# Altium footprint library lorawan_gateway.PcbLib: 36 footprints (part 1 of 3)
Each footprint in its own frame and in the unit in brackets; x right, y up, seen from the top. Pads: shape width x height; smd on the part's side, far side on the other; paste and mask are expansions set on the pad; w line width, h text height; cw(c..) or ccw(c..) is an arc to the next point about the centre after c.
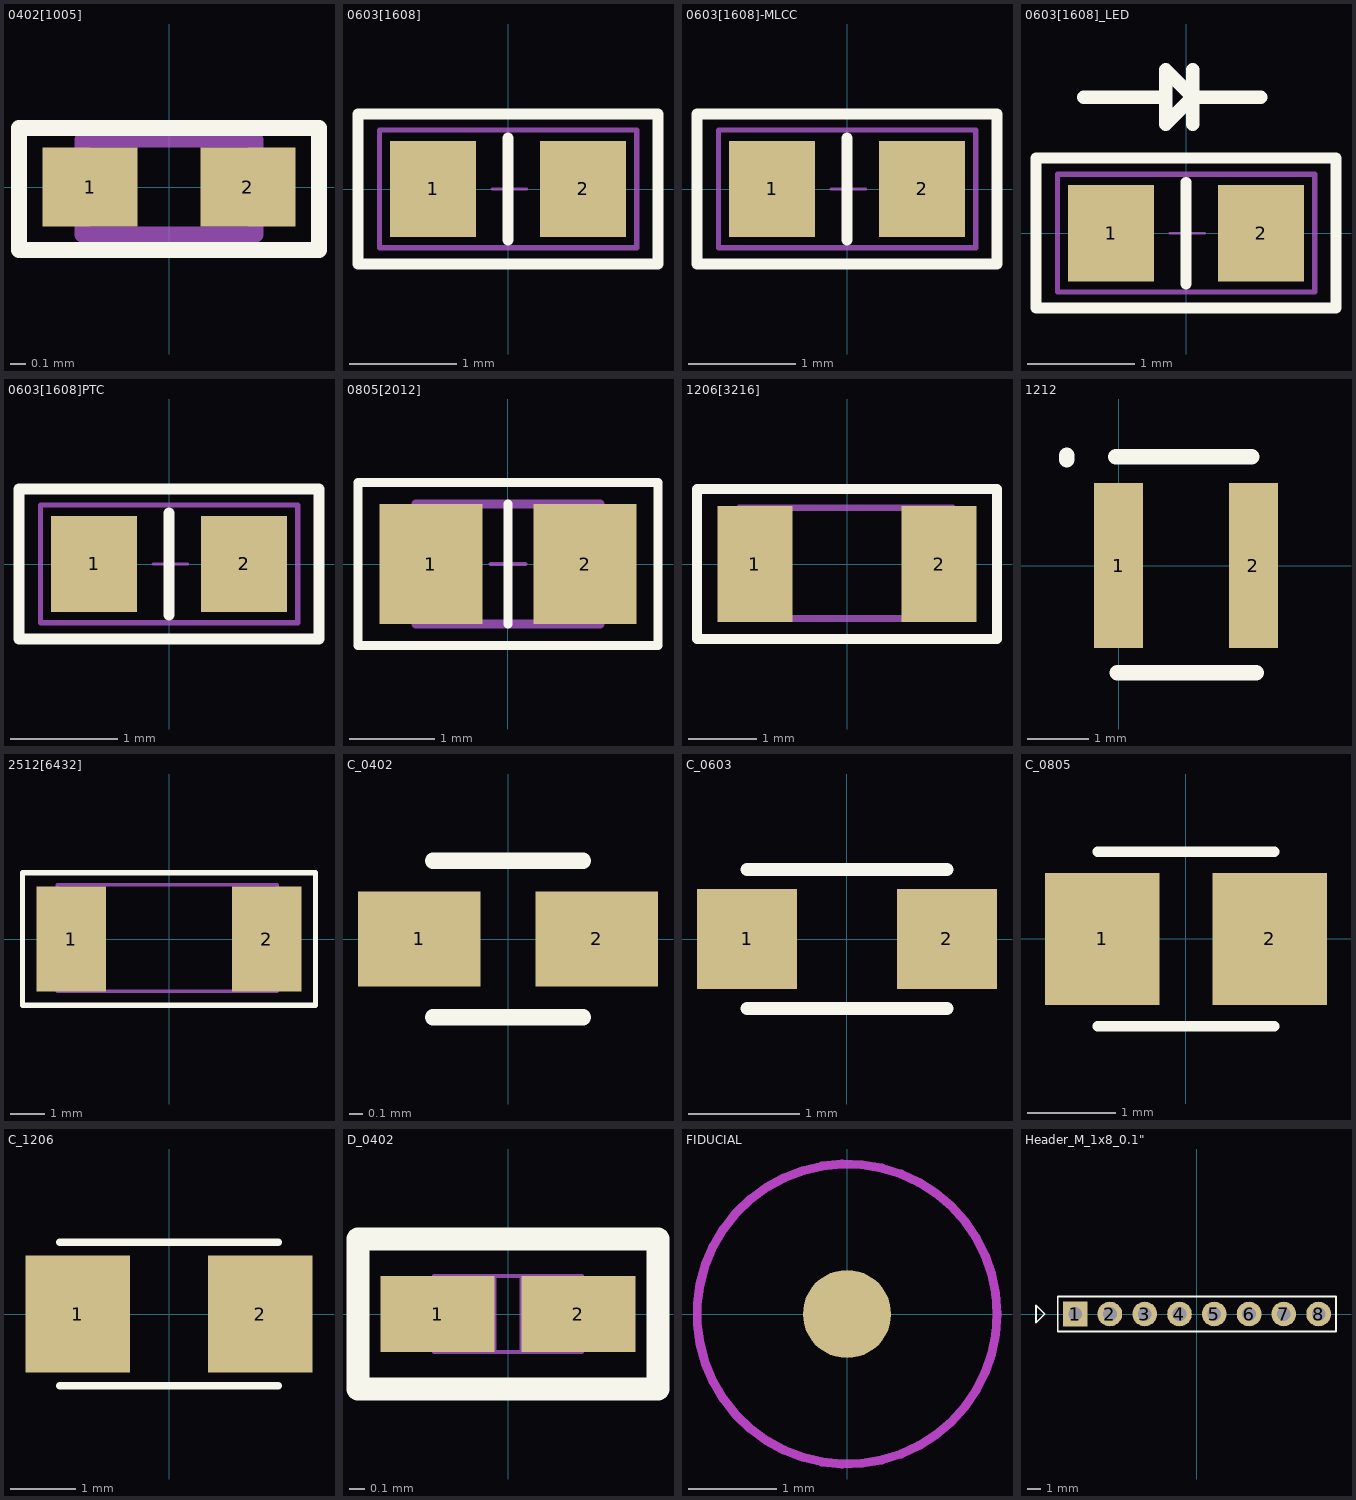
[diagram p0: the footprints below, top view; thin cyan lines are the x and y axes]

## 0402[1005] [mm] "Chip Capacitor, Body 1.0x0.5mm, IPC High Density"
height 1.3
pads (2):
  rect 0.6x0.5 smd: 1(-0.5,0) 2(0.5,0)
Top Overlay:
  lines w0.102: -0.95,-0.4 0.95,-0.4 0.95,0.375 -0.95,0.375 -0.95,-0.4
Mechanical 1:
  lines w0.1: -0.55,-0.3 -0.55,0.3 0.55,0.3 0.55,-0.3 -0.55,-0.3
3D body "RES0402.stp": height 0.3, standoff 0, extent -0.5,-0.25 0.5,0.25

## 0603[1608] [mm] "Chip Capacitor, Body 1.6x0.8mm, IPC High Density"
height 1.3
pads (2):
  rect 0.8x0.9 smd: 1(-0.7,0) 2(0.7,0)
Top Overlay:
  lines w0.102: 0,-0.475 0,0.475 ; -1.4,-0.7 -1.4,0.7 1.4,0.7 1.4,-0.7 -1.4,-0.7
Mechanical 1:
  lines w0.025: -0.15,0 0.175,0 ; 0,-0.2 0,0.2
  lines w0.05: -1.2,-0.55 1.2,-0.55 1.2,0.55 -1.2,0.55 -1.2,-0.55
3D body "RES0603.stp": height 0.45, standoff 0, extent -0.787,-0.4 0.813,0.4

## 0603[1608]-MLCC [mm] "Chip Capacitor, Body 1.6x0.8mm, IPC High Density"
height 1.3
pads (2):
  rect 0.8x0.9 smd: 1(-0.7,0) 2(0.7,0)
Top Overlay:
  lines w0.102: 0,-0.475 0,0.475 ; -1.4,-0.7 -1.4,0.7 1.4,0.7 1.4,-0.7 -1.4,-0.7
Mechanical 1:
  lines w0.025: -0.15,0 0.175,0 ; 0,-0.2 0,0.2
  lines w0.05: -1.2,-0.55 1.2,-0.55 1.2,0.55 -1.2,0.55 -1.2,-0.55
3D body "CAP_CL10A.STEP": height 0.8, standoff 0, extent -0.8,-0.45 0.8,0.45

## 0603[1608]_LED [mm] "LED 0603 [1608]"
height 2
pads (2):
  rect 0.8x0.9 smd: 1(-0.7,0) 2(0.7,0)
Top Overlay:
  lines w0.102: 0,-0.475 0,0.475 ; -1.4,-0.7 1.4,-0.7 1.4,0.7 -1.4,0.7 -1.4,-0.7
  lines w0.127: -0.953,1.27 -0.191,1.27 ; 0.064,1.016 0.064,1.27 ; 0.191,1.27 0.064,1.27 ; 0.699,1.27 0.064,1.27 ; -0.191,1.27 -0.191,1.524 0.064,1.27 ; -0.191,1.27 -0.191,1.016 0.064,1.27 ; 0.064,1.27 0.064,1.524 0.064,1.27
Mechanical 1:
  lines w0.025: -0.15,0 0.175,0 ; 0,-0.2 0,0.2
  lines w0.05: -1.2,-0.55 -1.2,0.55 1.2,0.55 1.2,-0.55 -1.2,-0.55
3D body "APT1608.sldprt": height 0.75, standoff 0, extent -0.788,-0.4 0.823,0.4

## 0603[1608]PTC [mm] "Chip Capacitor, Body 1.6x0.8mm, IPC High Density"
height 1.3
pads (2):
  rect 0.8x0.9 smd: 1(-0.7,0) 2(0.7,0)
Top Overlay:
  lines w0.102: 0,-0.475 0,0.475 ; -1.4,-0.7 -1.4,0.7 1.4,0.7 1.4,-0.7 -1.4,-0.7
Mechanical 1:
  lines w0.025: -0.15,0 0.175,0 ; 0,-0.2 0,0.2
  lines w0.05: -1.2,-0.55 1.2,-0.55 1.2,0.55 -1.2,0.55 -1.2,-0.55
3D body "mf-fsmf050x.stp": height 0.82, standoff 0, extent -0.825,-0.425 0.825,0.425

## 0805[2012] [mm] "Chip Resistor, Body 2.0x1.2mm, IPC Medium Density"
height 0.7
pads (2):
  rect 1.2x1.4 smd: 1(-0.9,0) 2(0.9,0)
Top Overlay:
  lines w0.102: 0,-0.7 0,0.7 ; -1.75,-0.95 -1.75,0.95 1.75,0.95 1.75,-0.95 -1.75,-0.95
Mechanical 1:
  lines w0.051: -0.2,0 0.2,0 ; 0,-0.2 0,0.2
  lines w0.1: -1.075,-0.7 -1.075,0.7 1.075,0.7 1.075,-0.7 -1.075,-0.7
3D body "RES0805.stp": height 0.5, standoff 0, extent -1,-0.63 1,0.62

## 1206[3216] [mm] "Chip Capacitor, Body 3.2x1.6mm, IPC High Density"
height 1.3
pads (2):
  rect 1.1x1.7 smd: 1(-1.35,0) 2(1.35,0)
Top Overlay:
  lines w0.152: -2.2,-1.1 -2.2,1.1 2.2,1.1 2.2,-1.1 -0.4,-1.1 -2.2,-1.1
Mechanical 13:
  lines w0.1: -1.575,-0.8 1.55,-0.8 1.55,0.825 -1.575,0.825 -1.575,-0.8
3D body "RES1206.stp": height 0.55, standoff 0, extent -1.55,-0.772 1.55,0.78

## 1212 [mm] "Inductor"
height 1.5
pads (2):
  rect 0.8x2.7 smd: 1(0,0) 2(2.2,0)
Top Overlay:
  lines w0.254: -0.85,1.725 -0.85,1.8 ; -0.05,1.775 2.175,1.775 ; -0.025,-1.75 2.25,-1.75
3D body: height 1.4, standoff 0, extent -0.5,-1.5 2.7,1.5

## 2512[6432] [mm] "Chip Capacitor, Body 2.54x1.27mm, IPC High Density"
height 1.3
pads (2):
  rect 2x3 smd: 1(-2.8,0) 2(2.8,0)
Top Overlay:
  lines w0.152: -4.2,-1.9 4.2,-1.9 4.2,1.9 -4.2,1.9 -4.2,-1.9
Mechanical 1:
  lines w0.1: -3.2,-1.5 -3.2,1.55 3.1,1.55 3.1,-1.5 -3.2,-1.5
3D body "RES2512.stp": height 0.55, standoff 0, extent -3.15,-1.55 3.15,1.55

## C_0402 [mm] "Capacitor 0402"
pads (2):
  rect 0.9x0.7 smd: 1(-0.65,0) 2(0.65,0)
Top Overlay:
  lines w0.12: -0.55,-0.575 0.55,-0.575 ; -0.55,0.575 0.55,0.575
3D body "C0402-1.step": height 0.5, standoff 0, extent -0.498,-0.25 0.498,0.25

## C_0603 [mm] "Capacitor 0603"
pads (2):
  rect 0.9x0.9 smd: 1(-0.9,0) 2(0.9,0)
Top Overlay:
  lines w0.12: -0.9,-0.625 0.9,-0.625 ; -0.9,0.625 0.9,0.625
3D body "U-ser Library-CAPC1608X09.step": height 0.9, standoff 0, extent -0.8,-0.4 0.8,0.4

## C_0805 [mm]
pads (2):
  rect 1.3x1.5 smd: 1(-0.95,0) 2(0.95,0)
Top Overlay:
  lines w0.12: -1,-0.99 1,-0.99 ; -1,0.99 1,0.99
3D body "User Library-Chip Cap_MLCC_0805 (2012)_A.step": height 0.6, standoff 0, extent -1,-0.635 1,0.615

## C_1206 [mm]
pads (2):
  rect 1.6x1.8 smd: 1(-1.4,0) 2(1.4,0)
Top Overlay:
  lines w0.12: -1.675,-1.1 1.675,-1.1 ; -1.675,1.1 1.675,1.1
3D body "1206 SMD Capacitor.step": height 1, standoff 0, extent -1.6,-0.8 1.6,0.8

## D_0402 [mil]
pads (2):
  rect 30x20 smd paste+0 mask+0: 1(-18.5,0) 2(18.5,0)
Top Overlay:
  lines w6: -39.37,-19.68 -39.37,19.68 0,19.68 39.37,19.68 39.37,-19.68 -39.37,-19.68
Mechanical 13:
  lines w1: -19.5,-10 -19.5,10 ; -19.5,-10 -3.5,-10 -3.5,10 -19.5,10 ; -19.5,-10 19.5,-10 ; -19.5,-10 -19.5,10 ; -19.5,10 19.5,10 ; 19.5,-10 3.5,-10 3.5,10 19.5,10 ; 19.5,-10 19.5,10 ; 19.5,-10 19.5,10
3D body "LED_SMD_1XP5_KNB.step": height 20, standoff 0, extent -19.49,-10 19.49,10

## FIDUCIAL [mm] "FIDUCIAL"
pads (1):
  round 1 smd mask+1: ""(0,0)
Top Layer keep-out:
  circle w0.1: c0,0 r1.7
Mechanical 1:
  circle w0.1: c0,0 r1.7

## Header_M_1x8_0.1" [mm] "Header Male 1 x 8 Vias Pitch 100mils"
pads (8):
  rect 1.8x1.8 hole 1: 1(-8.89,0)
  round 1.8 hole 1: 2(-6.35,0) 3(-3.81,0) 4(-1.27,0) 5(1.27,0) 6(3.81,0) 7(6.35,0) 8(8.89,0)
Top Overlay:
  lines w0.127: -11.747,-0.635 -11.747,0.635 -11.112,0 -11.747,-0.635 ; -10.16,-1.27 -10.16,1.27 10.16,1.27 10.16,-1.27 -10.16,-1.27
3D body "User Library-1x8 TH Pitch 2_54mm.STEP": height 9.2, standoff -3.5, extent -10.16,-1.27 10.16,1.27